# EAGLE library part PP140-50CBS5.50X5.00_T2 (library NewSDR)
LeaderTech EMI Shield 5.50" x 5.00" 50 Series Fence
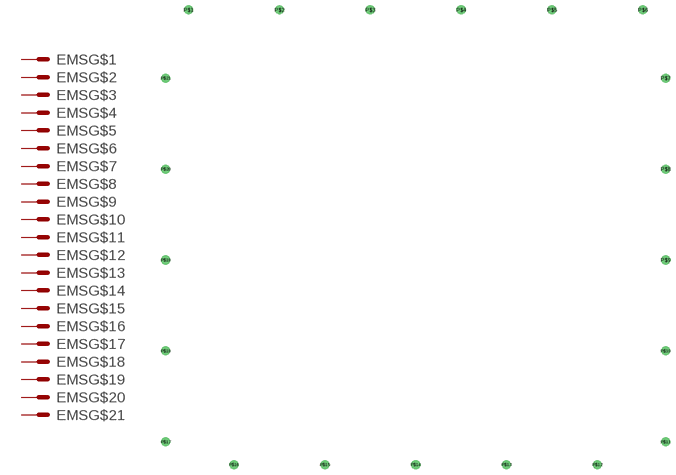
[diagram p135: symbol with the pads of PP140-50CBS5.5X5.0_T2; footprint PP140-50CBS5.5X5.0_T2]

Designator prefix EMS; gates G$1=MS G$2=MS G$3=MS G$4=MS G$5=MS G$6=MS G$7=MS G$8=MS G$9=MS G$10=MS G$11=MS G$12=MS G$13=MS G$14=MS G$15=MS G$16=MS G$17=MS G$18=MS G$19=MS G$20=MS G$21=MS

## PP140-50CBS5.50X5.00_T2  [PP140-50CBS5.5X5.0_T2]
P$1  G$1:MS  pas
P$2  G$2:MS  pas
P$3  G$3:MS  pas
P$4  G$4:MS  pas
P$5  G$5:MS  pas
P$6  G$6:MS  pas
P$7  G$7:MS  pas
P$8  G$8:MS  pas
P$9  G$9:MS  pas
P$10  G$10:MS  pas
P$11  G$11:MS  pas
P$12  G$12:MS  pas
P$13  G$13:MS  pas
P$14  G$14:MS  pas
P$15  G$15:MS  pas
P$16  G$16:MS  pas
P$17  G$17:MS  pas
P$18  G$18:MS  pas
P$19  G$19:MS  pas
P$20  G$20:MS  pas
P$21  G$21:MS  pas

## Footprint PP140-50CBS5.5X5.0_T2 (pad centres in mm)
LeaderTech EMI Sheild 5.5 x 5.0 1/4" start
drill 1.3 pad 2.54: P$1 6.35,0; P$2 31.75,0; P$3 57.15,0; P$4 82.55,0; P$5 107.95,0; P$6 133.35,0; P$7 139.7,-19.05; P$8 139.7,-44.45; P$9 139.7,-69.85; P$10 139.7,-95.25; P$11 139.7,-120.65; P$12 120.65,-127; P$13 95.25,-127; P$14 69.85,-127; P$15 44.45,-127; P$16 19.05,-127; P$17 0,-120.65; P$18 0,-95.25; P$19 0,-69.85; P$20 0,-44.45; P$21 0,-19.05